# Altium integrated library Digital_circuits_Integrated_Library.IntLib: 14 symbols
Pins are listed as number, name and electrical type; pins without a type are passive.

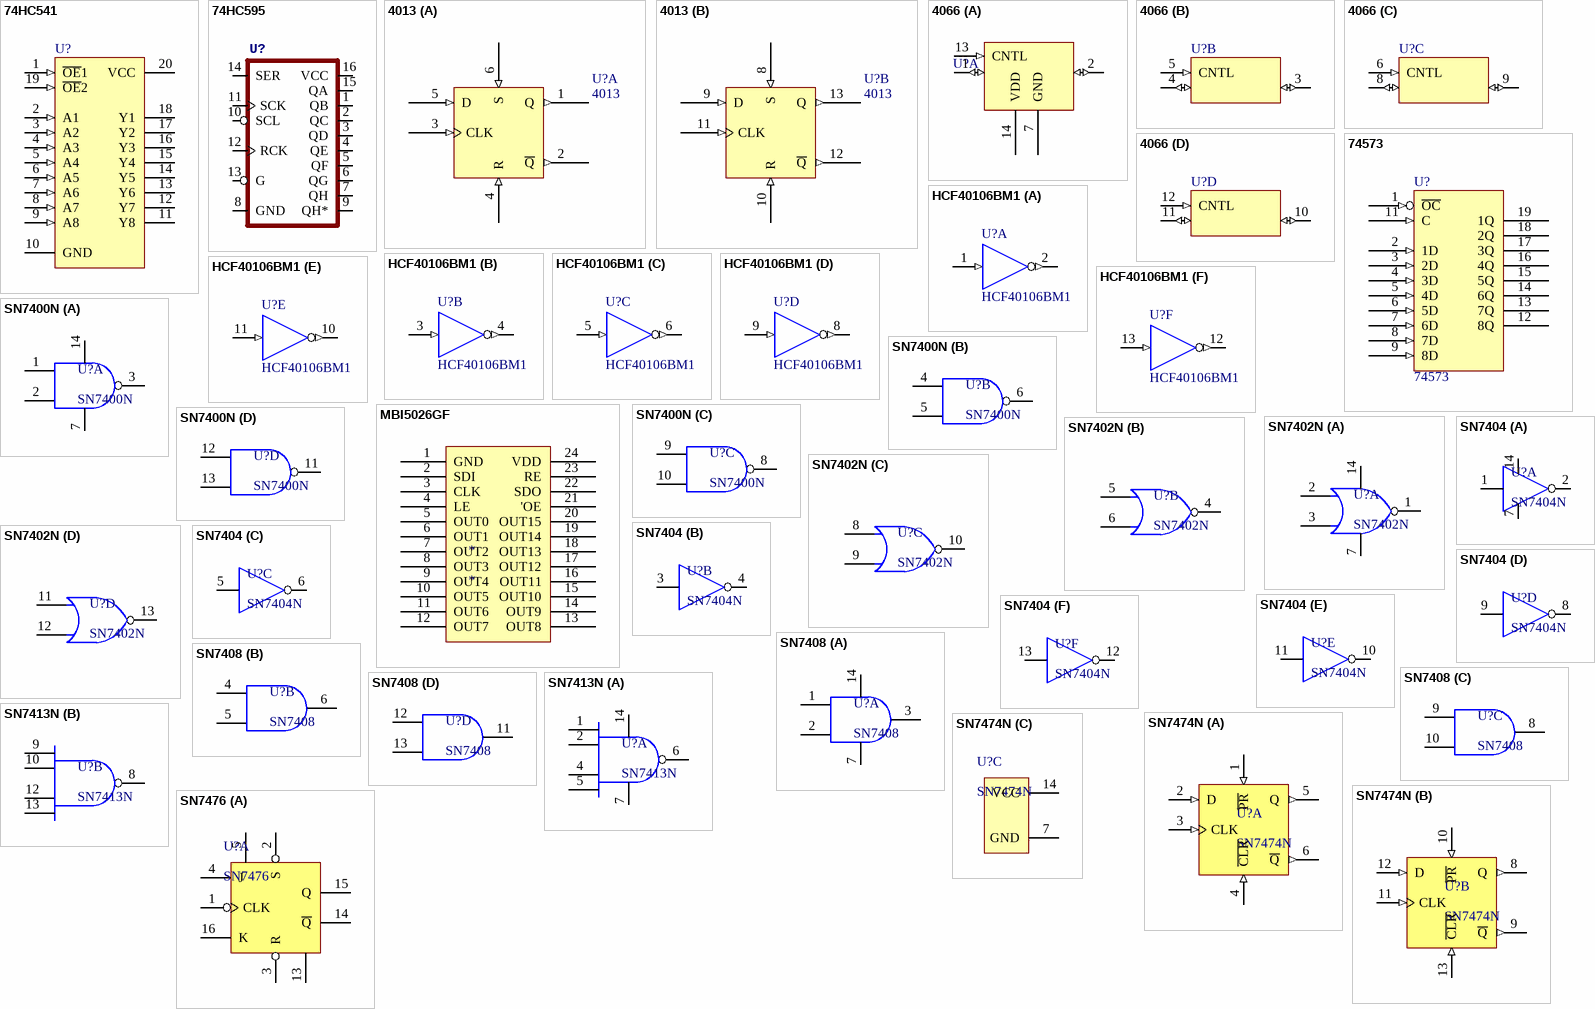
[diagram p0: symbols 74HC541 to SN7476]

## 74HC541
designator U?
Octal Non-Inverting Buffer/Line Driver with 3-State Outputs
footprint _DIP20 (DIP, 20-Pin, Row Spacing 7.62 mm, Pitch 2.54 mm)
footprint _SO20L (SOIC, 20-Leads, Body 12.8x7.5mm, Pitch 1.27mm, IPC High Density)
footprint _DIP20-KIT (Footprint not found)
pins: 1 ~{OE}1 (in), 2 A1 (in), 3 A2 (in), 4 A3 (in), 5 A4 (in), 6 A5 (in), 7 A6 (in), 8 A7 (in), 9 A8 (in), 10 GND (power), 11 Y8 (hiz), 12 Y7 (hiz), 13 Y6 (hiz), 14 Y5 (hiz), 15 Y4 (hiz), 16 Y3 (hiz), 17 Y2 (hiz), 18 Y1 (hiz), 19 ~{OE}2 (in), 20 VCC (power)

## 74HC595
designator U?  (value not drawn)
PROD_ID: IC-07875
footprint _DIP16
footprint _DIP16-KIT
footprint _SO16
pins: 1 QB (hiz), 2 QC (hiz), 3 QD (hiz), 4 QE (hiz), 5 QF (hiz), 6 QG (hiz), 7 QH (hiz), 8 GND (power), 9 QH* (hiz), 10 SCL, 11 SCK, 12 RCK, 13 G, 14 SER, 15 QA (hiz), 16 VCC (power)

## 4013
designator U?
Doual D-type Flip-Flop
footprint My_DIP-14
pins on every part: 7 GND (power) hidden to GND, 14 VCC (power) hidden to VCC
part A pins: 1 Q (out), 2 ~{Q} (out), 3 CLK (in), 4 R (in), 5 D (in), 6 S (in)
part B pins: 8 S (in), 9 D (in), 10 R (in), 11 CLK (in), 12 ~{Q} (out), 13 Q (out)

## 4066
designator U?
Quad Analog Switch/Quad Multiplexer
footprint _DIP14
footprint _SO14 (SOIC, 14-Leads, Body 9.9x3.9mm, Pitch 1.27mm)
footprint _DIP14-KIT
part A pins: 1 (io), 2 (io), 7 GND, 13 CNTL (in), 14 VDD
part B pins: 3 (io), 4 (io), 5 CNTL (in)
part C pins: 6 CNTL (in), 8 (io), 9 (io)
part D pins: 10 (io), 11 (io), 12 CNTL (in)

## 74573
designator U?
OCTAL D-TYPE TRANSPARENT LCH
footprint My_DIP20
pins: 1 ~{OC} (in), 2 1D (in), 3 2D (in), 4 3D (in), 5 4D (in), 6 5D (in), 7 6D (in), 8 7D (in), 9 8D (in), 10 GND (power) hidden to GND, 11 C (in), 12 8Q (hiz), 13 7Q (hiz), 14 6Q (hiz), 15 5Q (hiz), 16 4Q (hiz), 17 3Q (hiz), 18 2Q (hiz), 19 1Q (hiz), 20 VCC (power) hidden to VCC
1 alternate drawing of the same symbol

## HCF40106BM1
designator U?
Hex Schmitt Trigger; Published: 2017-3-1; LatestRevisionDate: 2017-3-1; LatestRevisionNote: IPC-7351 Footprint Added.; DatasheetVersion: Jun-1989; PackageVersion: 2016; PackageReference: SO14; Publisher: Abbas Basereh; PackageDescription: 14-Pin Small Outline Integrated Circuit 1.27 mm Pitch; Code_IPC: SOIC127P600-14; ComponentLink1Description: Manufacturer Link; ComponentLink1URL: http://www.st.com/; ComponentLink2Description: Datasheet; ComponentLink2URL: http://www.st.com/stonline/products/literature/ds/2017/hcf40106.pdf
footprint SO14_N (14-Pin Small Outline Integrated Circuit 1.27 mm Pitch, IPC Medium Density - Designer Abbas Basereh)
footprint SO14_L (14-Pin Small Outline Integrated Circuit 1.27 mm Pitch, IPC High Density)
footprint SO14_M (SOIC, 14-Leads, Body 8.7x3.9mm, Pitch 1.27mm, IPC Low Density)
pins on every part: 7 GND (power) hidden to GND, 14 VCC (power) hidden to VCC
part A pins: 1 A (in), 2 G (out)
part B pins: 3 B (in), 4 H (out)
part C pins: 5 C (in), 6 I (out)
part D pins: 8 J (out), 9 D (in)
part E pins: 10 K (out), 11 E (in)
part F pins: 12 L (out), 13 F (in)

## MBI5026GF
designator *
footprint _SOP24
pins: 1 GND, 2 SDI, 3 CLK, 4 LE, 5 OUT0, 6 OUT1, 7 OUT2, 8 OUT3, 9 OUT4, 10 OUT5, 11 OUT6, 12 OUT7, 13 OUT8, 14 OUT9, 15 OUT10, 16 OUT11, 17 OUT12, 18 OUT13, 19 OUT14, 20 OUT15, 21 'OE, 22 SDO, 23 RE, 24 VDD

## SN7400N
designator U?
Quad 2 Input NAND Gate; Manufacturer: Texas Instrument; Designer: Saeid Jorablo; Company: ControTec; Adding date: 1387/12/22; ComponentLink1Description: DataSheet; ComponentLink1URL: *; Reversion: *
footprint DIP14
part A pins: 1, 2, 3, 7 GND (power), 14 VCC (power)
part B pins: 4, 5, 6
part C pins: 8, 9, 10
part D pins: 11, 12, 13

## SN7402N
designator U?
Quad 2 Input NOR Gate; Manufacturer: Texas Instrument; Designer: Saeid Jorablo; Company: ControTec; Adding Date: 1387/12/22; ComponentLink1Description: DataSheet; ComponentLink1URL: *
footprint DIP14
part A pins: 1, 2, 3, 7 GND, 14 VCC
part B pins: 4, 5, 6
part C pins: 8, 9, 10
part D pins: 11, 12, 13

## SN7404
designator U?, comment SN7404N
Hex Inverter; Manufactorer: Texas Instrument; Designer: Saeid Jorablo; Company: ControTec; Adding Date: 1387/12/22; ComponentLink1Description: Data Sheet; ComponentLink1URL: *
footprint dip14
part A pins: 1, 2, 7 GND (power), 14 VCC (power)
part B pins: 3, 4
part C pins: 5, 6
part D pins: 8, 9
part E pins: 10, 11
part F pins: 12, 13

## SN7408
designator U?
Quad 2 Input AND Gate; Designer: Saeid Jorablo; Company: ControTEK; Adding Date: 1387/01/10
footprint dip14
part A pins: 1, 2, 3, 7 GND (power), 14 VCC (power)
part B pins: 4, 5, 6
part C pins: 8, 9, 10
part D pins: 11, 12, 13

## SN7413N
designator U?
Dual 4 Input NAND Gate; Manufacturer: Texas Instrument; Designer: Saeid Jorablo; Company: ControTec; Adding Date: 1387/12/12; ComponentLink1Description: Data Sheet; ComponentLink1URL: *
footprint DIP14
part A pins: 1, 2, 4, 5, 6, 7 GND, 14 VCC
part B pins: 8, 9, 10, 12, 13

## SN7474N
designator U?
Dual D Flip Flop; Manufactorer: Texas Instrument; Designer: Saeid Jorablo; Company: ControTec; Adding Date: 1387/12/22; ComponentLink1Description: Data Sheet; ComponentLink1URL: *
footprint dip14
part A pins: 1 ~{PR} (in), 2 D (in), 3 CLK (in), 4 ~{CLR} (in), 5 Q (out), 6 ~{Q} (out)
part B pins: 8 Q (out), 9 ~{Q} (out), 10 ~{PR} (in), 11 CLK (in), 12 D (in), 13 ~{CLR} (in)
part C pins: 7 GND (power), 14 VCC (power)

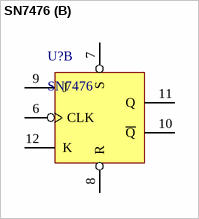
[diagram p1: symbol SN7476]

## SN7476
designator U?
Dual J-K Flip Flop With Set & Reset; Designer: Saeid Jorablo; Company: ControTEK; Adding Date: 1387/01/10
footprint Dip16 (Footprint not found)
part A pins: 1 CLK, 2 S, 3 R, 4 J, 5 VCC (power), 13 GND (power), 14 ~{Q}, 15 Q, 16 K
part B pins: 6 CLK, 7 S, 8 R, 9 J, 10 ~{Q}, 11 Q, 12 K